# Altium schematic symbol library Connectors.SchLib: 4 symbols
Pins are listed as number, name and electrical type; pins without a type are passive.

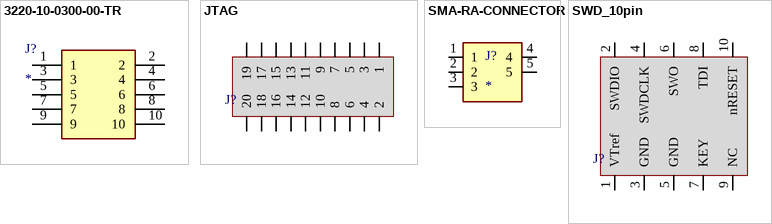
[diagram p0: symbols 3220-10-0300-00-TR to SWD_10pin]

## 3220-10-0300-00-TR
designator J?
Connector; Manufacturer_Name: CNC Tech; Manufacturer_Part_Number: 3220-10-0300-00-TR; Datasheet Link: http://www.cnctech.us/pdfs/3220-XX-0300-00-TR.pdf; Height: 5.55mm; Arrow Part Number: 3220-10-0300-00-TR; Arrow Price/Stock: https://www.arrow.com/en/products/3220-10-0300-00-tr/cnc-tech-llc?region=nac
footprint 322010030000TR
pins: 1, 2, 3, 4, 5, 6, 7, 8, 9, 10

## JTAG
designator J?
pins: 1, 2, 3, 4, 5, 6, 7, 8, 9, 10, 11, 12, 13, 14, 15, 16, 17, 18, 19, 20

## SMA-RA-CONNECTOR
designator J?
Connector; Manufacturer_Name: LPRS; Manufacturer_Part_Number: SMA-RA-CONNECTOR; Height: 9mm
footprint SMARACONNECTOR
pins: 1, 2, 3, 4, 5

## SWD_10pin
designator J?
pins: 1 VTref, 2 SWDIO, 3 GND, 4 SWDCLK, 5 GND, 6 SWO, 7 KEY, 8 TDI, 9 NC, 10 nRESET